# Altium footprint library CN_MiniFit_Jr_20P.PcbLib: 1 footprints
Each footprint in its own frame and in the unit in brackets; x right, y up, seen from the top. Pads: shape width x height; smd on the part's side, far side on the other; paste and mask are expansions set on the pad; w line width, h text height; cw(c..) or ccw(c..) is an arc to the next point about the centre after c.
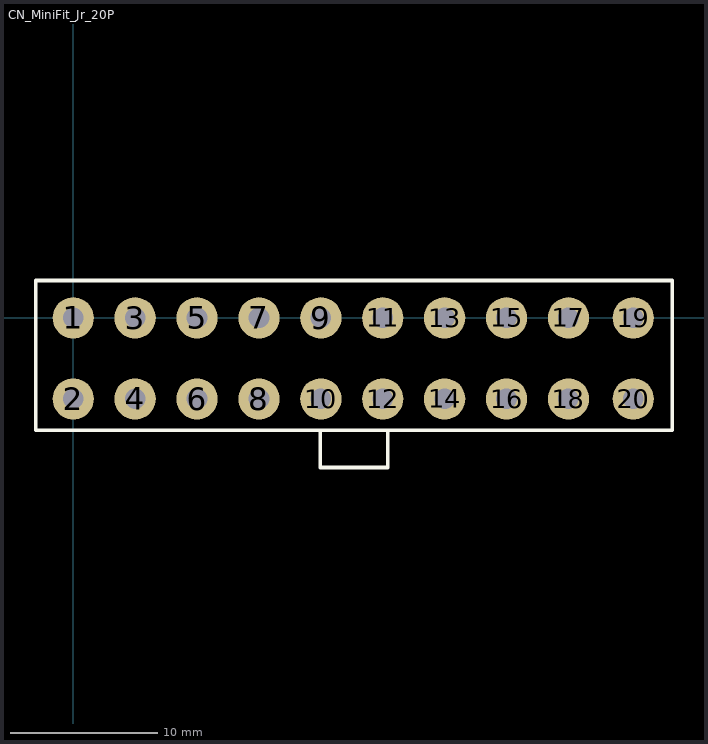
[diagram p0: the footprint, top view; thin cyan lines are the x and y axes]

## CN_MiniFit_Jr_20P [mm] "MOLEX - 39281203 - HEADER ASSEMBLY, MINIFIT, 20WAY"
pads (20):
  round 2.8 hole 1.4: 1(0,0) 2(0,-5.5) 3(4.2,0) 4(4.2,-5.5) 5(8.4,0) 6(8.4,-5.5) 7(12.6,0) 8(12.6,-5.5) 9(16.8,0) 10(16.8,-5.5) 11(21,0) 12(21,-5.5) 13(25.2,0) 14(25.2,-5.5) 15(29.4,0) 16(29.4,-5.5) 17(33.6,0) 18(33.6,-5.5) 19(38,0) 20(38,-5.5)
Top Overlay:
  lines w0.254: 16.764,-7.62 16.764,-10.16 21.336,-10.16 21.336,-7.62 ; -2.54,-7.62 -2.54,2.54 40.64,2.54 40.64,-7.62 -2.54,-7.62
3D body: height 12.8, standoff -3.5, extent -3.1,-8.75 40.9,2.25